# Altium footprint library TCKE805NA,RF.PcbLib: 3 footprints
Each footprint in its own frame and in the unit in brackets; x right, y up, seen from the top. Pads: shape width x height; smd on the part's side, far side on the other; paste and mask are expansions set on the pad; w line width, h text height; cw(c..) or ccw(c..) is an arc to the next point about the centre after c.
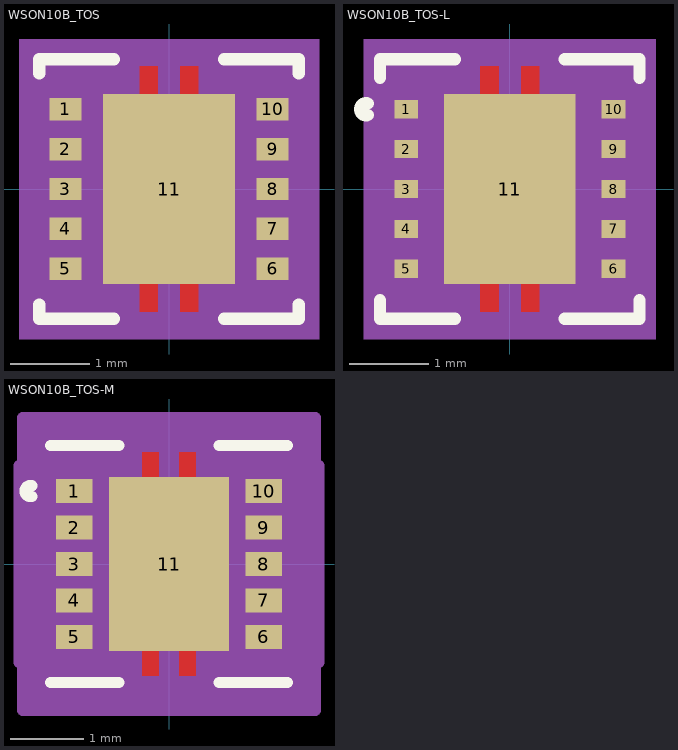
[diagram p0: the footprints below, top view; thin cyan lines are the x and y axes]

## WSON10B_TOS [mm]
pads (11):
  rect 0.4x0.279 smd paste+0 mask+0: 1(-1.3,1) 2(-1.3,0.5) 3(-1.3,0) 4(-1.3,-0.5) 5(-1.3,-1) 6(1.3,-1) 7(1.3,-0.5) 8(1.3,0) 9(1.3,0.5) 10(1.3,1)
  rect 1.651x2.388 smd paste+0 mask+0: 11(0,0)
Top Layer:
  region: -0.14,1.194 -0.368,1.194 -0.368,1.537 -0.14,1.537
  region: 0.14,1.194 0.368,1.194 0.368,1.537 0.14,1.537
  region: -0.14,-1.194 -0.368,-1.194 -0.368,-1.537 -0.14,-1.537
  region: 0.14,-1.194 0.368,-1.194 0.368,-1.537 0.14,-1.537
Top Overlay:
  lines w0.152: -1.627,-1.447 -1.627,-1.627 -0.689,-1.627 ; -1.627,1.447 -1.627,1.627 -0.689,1.627 ; 0.689,-1.627 1.627,-1.627 1.627,-1.447 ; 0.689,1.627 1.627,1.627 1.627,1.447
Top Paste:
  region: -0.14,1.194 -0.368,1.194 -0.368,1.537 -0.14,1.537
  region: 0.14,1.194 0.368,1.194 0.368,1.537 0.14,1.537
  region: -0.14,-1.194 -0.368,-1.194 -0.368,-1.537 -0.14,-1.537
  region: 0.14,-1.194 0.368,-1.194 0.368,-1.537 0.14,-1.537
Top Solder:
  region: -0.14,1.194 -0.368,1.194 -0.368,1.537 -0.14,1.537
  region: 0.14,1.194 0.368,1.194 0.368,1.537 0.14,1.537
  region: -0.14,-1.194 -0.368,-1.194 -0.368,-1.537 -0.14,-1.537
  region: 0.14,-1.194 0.368,-1.194 0.368,-1.537 0.14,-1.537
Mechanical 5:
  region: 1.881,-1.881 -1.881,-1.881 -1.881,1.881 1.881,1.881
Mechanical 13:
  circle w0: c-1.1,1 r0
  lines w0: -0.305,1.5 ccw(c0,1.5) 0.305,1.5
  lines w0.025: -1.5,-1.5 1.5,-1.5 1.5,1.5 -1.5,1.5 -1.5,-1.5
Mechanical 15:
  region: -1.754,-1.301 -1.754,1.301 -1.754,1.754 1.754,1.754 1.754,1.301 1.754,-1.301 1.754,-1.754 -1.754,-1.754
  lines w0.152: -1.754,-1.301 -1.754,1.301 ; -1.754,-1.301 -1.754,-1.301 ; -1.754,-1.301 -1.754,-1.754 1.754,-1.754 1.754,-1.301 ; -1.754,1.301 -1.754,1.301 ; -1.754,1.301 -1.754,1.754 1.754,1.754 1.754,1.301 ; 1.754,-1.301 1.754,1.301 ; 1.754,-1.301 1.754,-1.301 ; 1.754,1.301 1.754,1.301
3D body "WSON10B_TOS.step": height 0.71, standoff 0, extent -1.5,-1.537 1.5,1.537

## WSON10B_TOS-L [mm]
pads (11):
  rect 0.298x0.229 smd paste+0 mask+0: 1(-1.3,1) 2(-1.3,0.5) 3(-1.3,0) 4(-1.3,-0.5) 5(-1.3,-1) 6(1.3,-1) 7(1.3,-0.5) 8(1.3,0) 9(1.3,0.5) 10(1.3,1)
  rect 1.651x2.388 smd paste+0 mask+0: 11(0,0)
Top Layer:
  region: -0.14,1.194 -0.368,1.194 -0.368,1.537 -0.14,1.537
  region: 0.14,1.194 0.368,1.194 0.368,1.537 0.14,1.537
  region: -0.14,-1.194 -0.368,-1.194 -0.368,-1.537 -0.14,-1.537
  region: 0.14,-1.194 0.368,-1.194 0.368,-1.537 0.14,-1.537
Top Overlay:
  lines w0.152: -1.782,0.926 cw(c-1.801,1) -1.782,1.074 ; -1.627,-1.396 -1.627,-1.627 -0.689,-1.627 ; -1.627,1.396 -1.627,1.627 -0.689,1.627 ; 0.689,-1.627 1.627,-1.627 1.627,-1.396 ; 0.689,1.627 1.627,1.627 1.627,1.396
Top Paste:
  region: -0.14,1.194 -0.368,1.194 -0.368,1.537 -0.14,1.537
  region: 0.14,1.194 0.368,1.194 0.368,1.537 0.14,1.537
  region: -0.14,-1.194 -0.368,-1.194 -0.368,-1.537 -0.14,-1.537
  region: 0.14,-1.194 0.368,-1.194 0.368,-1.537 0.14,-1.537
Top Solder:
  region: -0.14,1.194 -0.368,1.194 -0.368,1.537 -0.14,1.537
  region: 0.14,1.194 0.368,1.194 0.368,1.537 0.14,1.537
  region: -0.14,-1.194 -0.368,-1.194 -0.368,-1.537 -0.14,-1.537
  region: 0.14,-1.194 0.368,-1.194 0.368,-1.537 0.14,-1.537
Mechanical 5:
  region: 1.83,-1.881 -1.83,-1.881 -1.83,1.881 1.83,1.881
Mechanical 13:
  circle w0: c-1.151,1 r0.076
  lines w0: -0.305,1.5 ccw(c0,1.5) 0.305,1.5
  lines w0.025: -1.5,-1.5 1.5,-1.5 1.5,1.5 -1.5,1.5 -1.5,-1.5
Mechanical 15:
  region: -1.602,-1.27 -1.602,1.27 -1.602,1.602 1.602,1.602 1.602,1.27 1.602,-1.27 1.602,-1.602 -1.602,-1.602
  lines w0.152: -1.602,-1.27 -1.602,1.27 ; -1.602,-1.27 -1.602,-1.27 ; -1.602,-1.27 -1.602,-1.602 1.602,-1.602 1.602,-1.27 ; -1.602,1.27 -1.602,1.27 ; -1.602,1.27 -1.602,1.602 1.602,1.602 1.602,1.27 ; 1.602,-1.27 1.602,1.27 ; 1.602,-1.27 1.602,-1.27 ; 1.602,1.27 1.602,1.27
3D body "WSON10B_TOS.step": height 0.71, standoff 0, extent -1.5,-1.537 1.5,1.537

## WSON10B_TOS-M [mm]
pads (11):
  rect 0.502x0.33 smd paste+0 mask+0: 1(-1.3,1) 2(-1.3,0.5) 3(-1.3,0) 4(-1.3,-0.5) 5(-1.3,-1) 6(1.3,-1) 7(1.3,-0.5) 8(1.3,0) 9(1.3,0.5) 10(1.3,1)
  rect 1.651x2.388 smd paste+0 mask+0: 11(0,0)
Top Layer:
  region: -0.14,1.194 -0.368,1.194 -0.368,1.537 -0.14,1.537
  region: 0.14,1.194 0.368,1.194 0.368,1.537 0.14,1.537
  region: -0.14,-1.194 -0.368,-1.194 -0.368,-1.537 -0.14,-1.537
  region: 0.14,-1.194 0.368,-1.194 0.368,-1.537 0.14,-1.537
Top Overlay:
  lines w0.152: -1.884,0.926 cw(c-1.902,1) -1.884,1.074 ; -1.627,-1.627 -0.689,-1.627 ; -1.627,1.627 -0.689,1.627 ; 0.689,-1.627 1.627,-1.627 ; 0.689,1.627 1.627,1.627
Top Paste:
  region: -0.14,1.194 -0.368,1.194 -0.368,1.537 -0.14,1.537
  region: 0.14,1.194 0.368,1.194 0.368,1.537 0.14,1.537
  region: -0.14,-1.194 -0.368,-1.194 -0.368,-1.537 -0.14,-1.537
  region: 0.14,-1.194 0.368,-1.194 0.368,-1.537 0.14,-1.537
Top Solder:
  region: -0.14,1.194 -0.368,1.194 -0.368,1.537 -0.14,1.537
  region: 0.14,1.194 0.368,1.194 0.368,1.537 0.14,1.537
  region: -0.14,-1.194 -0.368,-1.194 -0.368,-1.537 -0.14,-1.537
  region: 0.14,-1.194 0.368,-1.194 0.368,-1.537 0.14,-1.537
Mechanical 5:
  region: 1.932,-1.881 -1.932,-1.881 -1.932,1.881 1.932,1.881
Mechanical 13:
  circle w0: c-1.049,1 r0.076
  lines w0: -0.305,1.5 ccw(c0,1.5) 0.305,1.5
  lines w0.025: -1.5,-1.5 1.5,-1.5 1.5,1.5 -1.5,1.5 -1.5,-1.5
Mechanical 15:
  region: -2.008,-1.352 -2.059,-1.352 -2.059,1.352 -2.008,1.352 -2.008,2.008 2.008,2.008 2.008,1.352 2.059,1.352 2.059,-1.352 2.008,-1.352 2.008,-2.008 -2.008,-2.008
  lines w0.152: -2.059,-1.352 -2.059,1.352 -2.008,1.352 -2.008,2.008 2.008,2.008 2.008,1.352 2.059,1.352 2.059,-1.352 2.008,-1.352 2.008,-2.008 -2.008,-2.008 -2.008,-1.352 -2.059,-1.352
3D body "WSON10B_TOS.step": height 0.71, standoff 0, extent -1.5,-1.537 1.5,1.537